# Altium footprint library 20_pin_connector.PcbLib: 1 footprints
Each footprint in its own frame and in the unit in brackets; x right, y up, seen from the top. Pads: shape width x height; smd on the part's side, far side on the other; paste and mask are expansions set on the pad; w line width, h text height; cw(c..) or ccw(c..) is an arc to the next point about the centre after c.
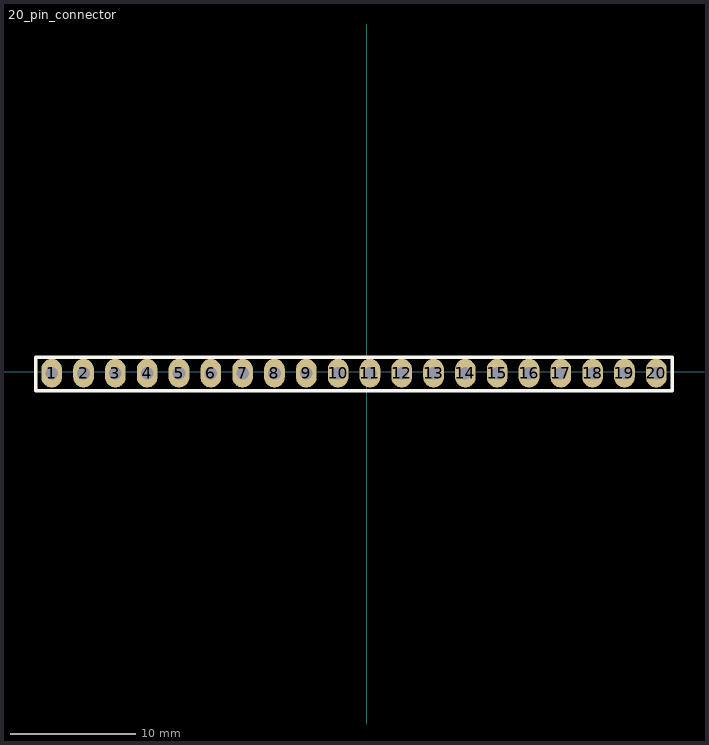
[diagram p0: the footprint, top view; thin cyan lines are the x and y axes]

## 20_pin_connector [mil]
pads (20):
  oval 65x90 hole 40: 1(-990,-5) 2(-890,-5) 3(-790,-5) 4(-690,-5) 5(-590,-5) 6(-490,-5) 7(-390,-5) 8(-290,-5) 9(-190,-5) 10(-90,-5) 11(10,-5) 12(110,-5) 13(210,-5) 14(310,-5) 15(410,-5) 16(510,-5) 17(610,-5) 18(710,-5) 19(810,-5) 20(910,-5)
Top Overlay:
  lines w10: -1040,-60 960,-60 960,45 -1040,45 -1040,-60
3D body "Connector 20 PIN Wurth.STEP": height 356.22, standoff -98.11, extent -1040,-55 960,45